# Altium schematic symbol library Full_Bridge_Rectifier.SchLib: 1 symbol
Pins are listed as number, name and electrical type; pins without a type are passive.

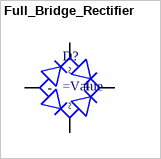
[diagram p0: symbol Full_Bridge_Rectifier]

## Full_Bridge_Rectifier
designator D?
pins: 1 +, 2 -, 3 ~, 4 ~